# EAGLE library part AD9235 (library AD9235)
12 Bit A/D - Wandler (Analog)
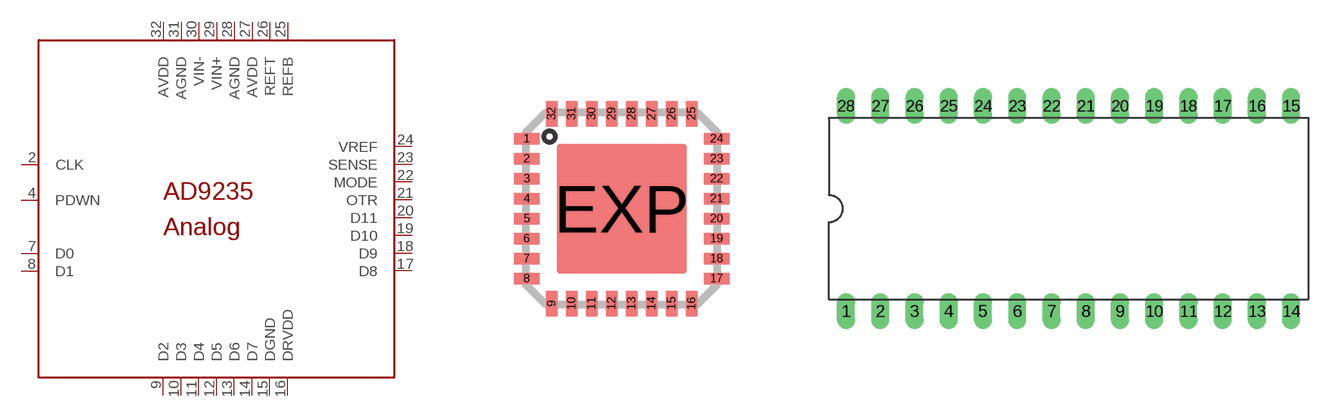
[diagram p0: symbol with the pads of LFCSP32; footprints LFCSP32, DIL28]

Designator prefix -

## AD9235BC  [LFCSP32]
2  CLK  in
4  PDWN
7  D0  pwr
8  D1  pwr
9  D2  in
10  D3  out
11  D4  nc
12  D5  nc
13  D6  out
14  D7  out
15  DGND  out
16  DRVDD  pwr
17  D8  out
18  D9  out
19  D10
20  D11  pwr
21  OTR  nc
22  MODE  nc
23  SENSE  out
24  VREF  out
25  REFB  pwr
26  REFT  out
27  AVDD  out
28  AGND  out
29  VIN+  out
30  VIN-
31  AGND
32  AVDD  pwr

## AD9235DIL  [DIL28]
1  OTR  nc
2  MODE  nc
3  SENSE  out
4  VREF  out
5  REFB  pwr
6  REFT  out
7  AVDD  out
8  AGND  out
9  VIN+  out
10  VIN-
11  AGND
12  AVDD  pwr
13  CLK  in
14  PDWN
15  D0  pwr
16  D1  pwr
17  D2  in
18  D3  out
19  D4  nc
20  D5  nc
21  D6  out
22  D7  out
23  DGND  out
24  DRVDD  pwr
25  D8  out
26  D9  out
27  D10
28  D11  pwr

## AD9235BR  [TSSOP28]
Pads as for DIL28

## Footprint LFCSP32 (pad centres in mm)
LFCSP-32
smd 0.65 x 0.3: 1 -2.375,1.75; 2 -2.375,1.25; 3 -2.375,0.75; 4 -2.375,0.25; 5 -2.375,-0.25; 6 -2.375,-0.75; 7 -2.375,-1.25; 8 -2.375,-1.75; 17 2.375,-1.75; 18 2.375,-1.25; 19 2.375,-0.75; 20 2.375,-0.25; 21 2.375,0.25; 22 2.375,0.75; 23 2.375,1.25; 24 2.375,1.75
smd 0.3 x 0.65: 9 -1.75,-2.375; 10 -1.25,-2.375; 11 -0.75,-2.375; 12 -0.25,-2.375; 13 0.25,-2.375; 14 0.75,-2.375; 15 1.25,-2.375; 16 1.75,-2.375; 25 1.75,2.375; 26 1.25,2.375; 27 0.75,2.375; 28 0.25,2.375; 29 -0.25,2.375; 30 -0.75,2.375; 31 -1.25,2.375; 32 -1.75,2.375
smd 3.25 x 3.25: EXP 0,0

## Footprint DIL28 (pad centres in mm)
drill 0.813 long: 1 -16.51,-7.62; 2 -13.97,-7.62; 3 -11.43,-7.62; 4 -8.89,-7.62; 5 -6.35,-7.62; 6 -3.81,-7.62; 7 -1.27,-7.62; 8 1.27,-7.62; 9 3.81,-7.62; 10 6.35,-7.62; 11 8.89,-7.62; 12 11.43,-7.62; 13 13.97,-7.62; 14 16.51,-7.62; 15 16.51,7.62; 16 13.97,7.62; 17 11.43,7.62; 18 8.89,7.62; 19 6.35,7.62; 20 3.81,7.62; 21 1.27,7.62; 22 -1.27,7.62; 23 -3.81,7.62; 24 -6.35,7.62; 25 -8.89,7.62; 26 -11.43,7.62; 27 -13.97,7.62; 28 -16.51,7.62

## Footprint TSSOP28 (pad centres in mm)
smd 0.35 x 1.2: 1 -5.495,-2.9; 2 -4.845,-2.9; 3 -4.195,-2.9; 4 -3.545,-2.9; 5 -2.895,-2.9; 6 -2.245,-2.9; 7 -1.595,-2.9; 8 -0.945,-2.9; 9 -0.295,-2.9; 10 0.355,-2.9; 11 1.005,-2.9; 12 1.655,-2.9; 13 2.305,-2.9; 14 2.955,-2.9; 15 2.955,2.9; 16 2.305,2.9; 17 1.655,2.9; 18 1.005,2.9; 19 0.355,2.9; 20 -0.295,2.9; 21 -0.945,2.9; 22 -1.595,2.9; 23 -2.245,2.9; 24 -2.895,2.9; 25 -3.545,2.9; 26 -4.195,2.9; 27 -4.845,2.9; 28 -5.495,2.9